# Altium footprint library CL05A106MQ5NUNC.PcbLib: 1 footprints
Each footprint in its own frame and in the unit in brackets; x right, y up, seen from the top. Pads: shape width x height; smd on the part's side, far side on the other; paste and mask are expansions set on the pad; w line width, h text height; cw(c..) or ccw(c..) is an arc to the next point about the centre after c.
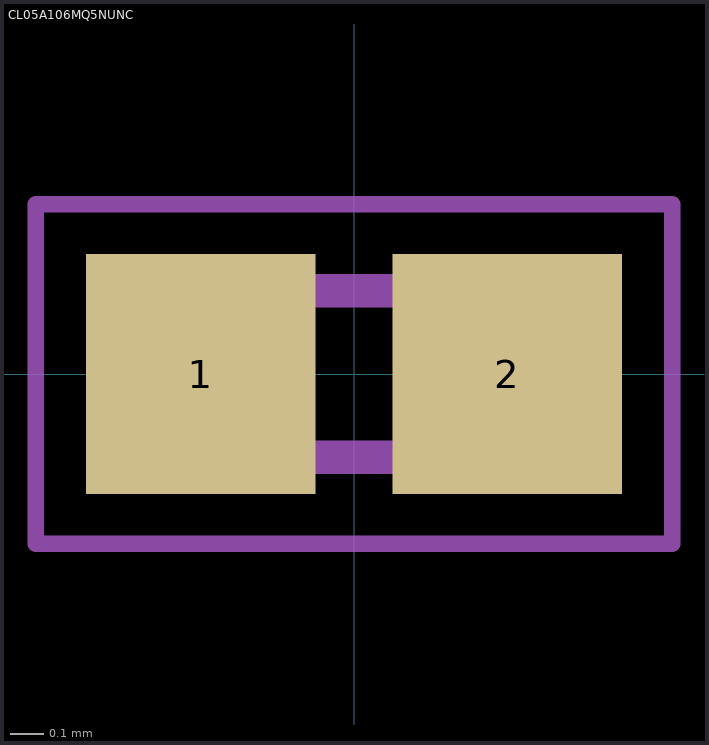
[diagram p0: the footprint, top view; thin cyan lines are the x and y axes]

## CL05A106MQ5NUNC [mm]
pads (2):
  rect 0.69x0.72 smd: 1(-0.46,0) 2(0.46,0)
Mechanical 15:
  lines w0.1: -0.5,-0.25 -0.5,0.25 0.5,0.25 0.5,-0.25 -0.5,-0.25
Mechanical 20:
  lines w0.05: -0.955,-0.51 -0.955,0.51 0.955,0.51 0.955,-0.51 -0.955,-0.51
3D body "CL05A106MQ5NUNC.stp": height 0.7, standoff 0, extent -0.5,-0.25 0.5,0.25